# Altium footprint library SMx_SOD.PcbLib: 15 footprints
Each footprint in its own frame and in the unit in brackets; x right, y up, seen from the top. Pads: shape width x height; smd on the part's side, far side on the other; paste and mask are expansions set on the pad; w line width, h text height; cw(c..) or ccw(c..) is an arc to the next point about the centre after c.
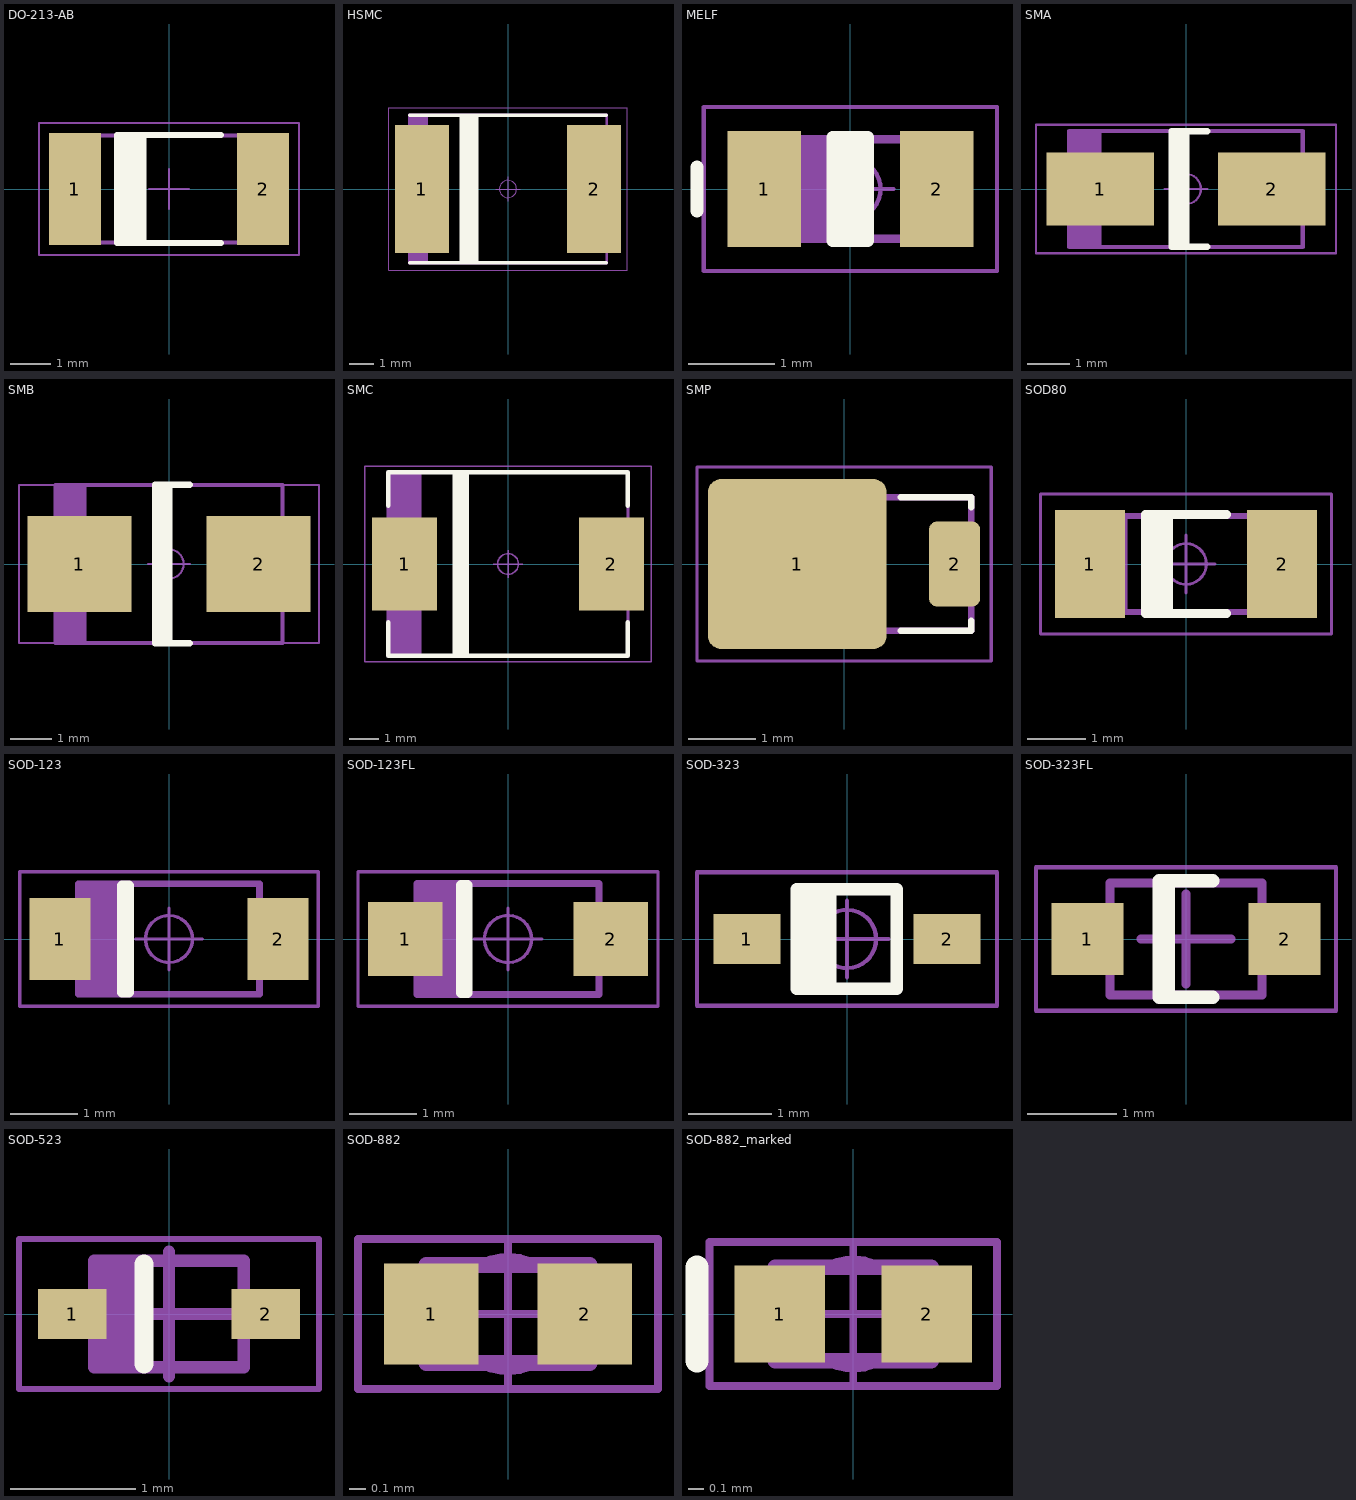
[diagram p0: the footprints below, top view; thin cyan lines are the x and y axes]

## DO-213-AB [mm] "DO-213-AB, MELF Diode, 2-Leads, Body 5.0x2.5mm, IPC Medium Density"
height 2.7
pads (2):
  rect 1.3x2.8 smd: 1(-2.35,0) 2(2.35,0)
Top Overlay:
  rectangle: -1.3,-1.35 -0.75,1.35
  lines w0.15: -0.75,-1.35 -0.75,1.35 ; -0.635,-1.35 -0.635,1.27 ; 1.3,-1.35 -1.3,-1.35 -1.3,1.35 1.3,1.35
Mechanical 14:
  lines w0.1: -2.5,-1.335 -2.5,1.335 ; -2.4,-1.335 -2.4,1.335 ; -2.3,-1.335 -2.3,1.335 ; -2.2,-1.335 -2.2,1.335 ; -2.1,-1.335 -2.1,1.335 ; -2,-1.335 -2,1.335 ; -2.6,-1.335 2.6,-1.335 2.6,1.335 -2.6,1.335 -2.6,-1.335
  text ".Designator" at -0.65,-0.55 h1
Mechanical 15:
  lines w0.05: -0.5,0 0.5,0 ; 0,-0.5 0,0.5 ; -3.25,-1.65 3.25,-1.65 3.25,1.65 -3.25,1.65 -3.25,-1.65
3D body "DIOMELF5025N.stp": height 2.67, standoff 0, extent -2.6,-1.335 2.6,1.335

## HSMC [mm] "DO-214-AB (HSMC) Molded Diode, Body 6.025 x 6.13mm, IPC Medium Density"
height 5.43
pads (2):
  rect 2.2x5.2 smd: 1(-3.5,0) 2(3.5,0)
Top Overlay:
  lines w0.15: -4,-3 4,-3 ; -4,3 4,3 ; -1.905,-3 -1.905,3 ; -1.778,-3 -1.778,3 ; -1.651,-3 -1.651,3 ; -1.524,-3 -1.524,3 ; -1.397,-3 -1.397,3 ; -1.27,-3 -1.27,3
Mechanical 14:
  lines w0.1: -3.908,-3.012 -3.908,3.012 ; -3.808,-3.012 -3.808,3.012 ; -3.708,-3.012 -3.708,3.012 ; -3.608,-3.012 -3.608,3.012 ; -3.508,-3.012 -3.508,3.012 ; -3.408,-3.012 -3.408,3.012 ; -3.308,-3.012 -3.308,3.012 ; -4.008,-3.012 -4.008,3.012 ; -4.008,-3.012 -4.008,3.012 ; -4.008,-3.012 4.008,-3.012 4.008,3.012 -4.008,3.012
  text ".Designator" at -0.7,-0.75 h1
Mechanical 15:
  circle w0.05: c0,0 r0.35
  lines w0.05: -0.5,0 0.5,0 ; 0,-0.5 0,0.5 ; -4.85,-3.3 -4.85,3.3 4.85,3.3 4.85,-3.3 -4.85,-3.3
3D body "DIOM8060X543N.stp": height 5.43, standoff 0, extent -4.09,-3.05 4.09,3.05

## MELF [mm] "MELF Diode, 2-Leads, Body 1.7x1.15mm, IPC Medium Density"
height 1.2
pads (2):
  rect 0.85x1.35 smd: 1(-1,0) 2(1,0)
Top Overlay:
  lines w0.15: -1.778,-0.254 -1.778,0.254 ; -0.127,-0.6 -0.127,0.6 ; 0,-0.6 0,0.6 ; 0.127,-0.6 0.127,0.6 ; -0.2,-0.6 0.2,-0.6 0.2,0.6 -0.2,0.6 -0.2,-0.6
Mechanical 14:
  lines w0.1: -0.85,-0.575 -0.85,0.575 ; -0.75,-0.575 -0.75,0.575 ; -0.65,-0.575 -0.65,0.575 ; -0.55,-0.575 -0.55,0.575 ; -0.45,-0.575 -0.45,0.575 ; -0.35,-0.575 -0.35,0.575 ; -0.25,-0.575 -0.25,0.575 ; -0.95,-0.575 0.95,-0.575 0.95,0.575 -0.95,0.575 ; -0.95,-0.575 -0.95,0.575 ; -0.95,-0.575 -0.95,0.575
  text ".Designator" at 0.15,-0.2 h0.4
Mechanical 15:
  circle w0.05: c0,0 r0.35
  lines w0.05: -0.5,0 0.5,0 ; 0,-0.5 0,0.5 ; -1.7,-0.95 1.7,-0.95 1.7,0.95 -1.7,0.95 -1.7,-0.95
3D body "DIOMELF1911N.stp": height 1.2, standoff 0, extent -1,-0.6 1,0.6

## SMA [mm]
height 3.15
pads (2):
  rect 2.5x1.7 smd: 1(-2,0) 2(2,0)
Top Overlay:
  lines w0.15: -0.25,-1.35 -0.25,1.35 ; -0.138,-1.35 -0.138,1.35 ; 0.004,1.27 0.004,-1.35 0.062,-1.35 ; 0.5,-1.35 -0.338,-1.35 -0.338,1.35 0.5,1.35
Mechanical 14:
  lines w0.1: -2.625,-1.352 -2.625,1.352 ; -2.525,-1.352 -2.525,1.352 ; -2.425,-1.352 -2.425,1.352 ; -2.325,-1.352 -2.325,1.352 ; -2.225,-1.352 -2.225,1.352 ; -2.125,-1.352 -2.125,1.352 ; -2.025,-1.352 -2.025,1.352 ; -2.725,-1.352 2.725,-1.352 2.725,1.352 -2.725,1.352 ; -2.725,-1.352 -2.725,1.352 ; -2.725,-1.352 -2.725,1.352
  text ".Designator" at -1.15,-0.6 h1
Mechanical 15:
  circle w0.05: c0,0 r0.35
  lines w0.05: -0.5,0 0.5,0 ; 0,-0.5 0,0.5 ; -3.5,-1.5 3.5,-1.5 3.5,1.5 -3.5,1.5 -3.5,-1.5
3D body "DIOM5528X26.STEP": height 2.6, standoff 0.03, extent -2.75,-1.4 2.75,1.4

## SMB [mm]
height 3.15
pads (2):
  rect 2.5x2.3 smd: 1(-2.15,0) 2(2.15,0)
Top Overlay:
  lines w0.15: -0.25,-1.9 -0.25,1.9 ; -0.138,-1.9 -0.138,1.9 ; 0.004,-1.9 0.004,1.9 ; 0.5,-1.9 -0.338,-1.9 -0.338,1.9 0.5,1.9
Mechanical 14:
  lines w0.1: -2.725,-1.352 -2.725,1.9 2.725,1.9 2.725,-1.9 -2.725,-1.9 -2.725,1.352 ; -2.625,-1.9 -2.625,1.9 ; -2.525,-1.9 -2.525,1.9 ; -2.425,-1.9 -2.425,1.9 ; -2.325,-1.9 -2.325,1.9 ; -2.225,-1.9 -2.225,1.9 ; -2.125,-1.9 -2.125,1.9 ; -2.025,-1.9 -2.025,1.9
  text ".Designator" at -1.1,-0.95 h1
Mechanical 15:
  circle w0.05: c0,0 r0.35
  lines w0.05: -0.5,0 0.5,0 ; 0,-0.46 0,0.46 ; -3.6,-1.9 -3.6,1.9 3.6,1.9 3.6,-1.9 -3.6,-1.9
3D body "DIOM5539X24.STEP": height 2.45, standoff 0.03, extent -2.75,-1.95 2.75,1.95

## SMC [mm] "DO-214-AB/SMC Molded Diode, Body 7.9x5.9mm, IPC Medium Density"
height 2.62
pads (2):
  rect 2.2x3.15 smd: 1(-3.5,0) 2(3.5,0)
Top Overlay:
  lines w0.15: -4.05,-1.975 -4.05,-3.1 4.05,-3.1 4.05,-1.975 ; -4.05,1.975 -4.05,3.1 4.05,3.1 4.05,1.975 ; -1.8,-3.1 -1.8,3.1 ; -1.7,-3.1 -1.7,3.1 ; -1.6,-3.1 -1.6,3.1 ; -1.5,-3.1 -1.5,3.1 ; -1.4,-3.1 -1.4,3.1
Mechanical 14:
  lines w0.1: -4,-3.11 -4,3.11 ; -3.95,-3.11 -3.95,3.11 ; -3.875,-3.11 -3.875,3.11 ; -3.8,-3.11 -3.8,3.11 ; -3.725,-3.11 -3.725,3.11 ; -3.65,-3.11 -3.65,3.11 ; -3.575,-3.11 -3.575,3.11 ; -3.5,-3.11 -3.5,3.11 ; -3.425,-3.11 -3.425,3.11 ; -3.35,-3.11 -3.35,3.11 ; -3.275,-3.11 -3.275,3.11 ; -3.2,-3.11 -3.2,3.11 ; -3.125,-3.11 -3.125,3.11 ; -3.05,-3.11 -3.05,3.11 ; -2.975,-3.11 -2.975,3.11 ; -4.065,-3.11 -4.065,3.11 4.065,3.11 4.065,-3.11 -4.065,-3.11
  text ".Designator" at -1,-0.65 h1
Mechanical 15:
  circle w0.05: c0,0 r0.35
  lines w0.05: -0.5,0 0.5,0 ; 0,-0.46 0,0.46 ; -4.85,-3.3 -4.85,3.3 4.85,3.3 4.85,-3.3 -4.85,-3.3
3D body "DIOM8261X24.STEP": height 2.4, standoff 0.03, extent -4.065,-3.05 4.065,3.05

## SMP [mm] "SODFL, 2-Leads, Body 1,65x3,60mm, IPC Medium Density"
height 0.95
pads (2):
  rrect15% 2.67x2.54 smd: 1(-0.7,0)
  rrect30% 0.762x1.27 smd: 2(1.651,0)
Top Overlay:
  lines w0.1: 0.85,-1 1.9,-1 1.9,-0.85 ; 0.85,1 1.9,1 1.9,0.85
Mechanical 14:
  rectangle: -1.9,-1 -1.1,1
  lines w0.1: -1.9,-1 1.9,-1 1.9,1 -1.9,1 -1.9,-1
  text ".Designator" at -0.3,-0.3 h0.5
Mechanical 15:
  circle w0.05: c0,0 r0.35
  lines w0.05: -0.5,0 0.5,0 ; 0,-0.46 0,0.46 ; -2.2,-1.45 -2.2,1.45 2.2,1.45 2.2,-1.45 -2.2,-1.45
3D body "SMP Package.STEP": height 1, standoff 0, extent -1.925,-1.015 1.925,1.015

## SOD80 [mm] "SOD80, Diode, MELF; 3.50mm L X 1.65mm Dia, IPC Medium Density"
height 1.6
pads (2):
  rect 1.2x1.85 smd: 1(-1.65,0) 2(1.65,0)
Top Overlay:
  lines w0.15: -0.635,-0.762 -0.635,0.762 ; -0.5,-0.85 -0.5,0.85 ; -0.381,-0.762 -0.381,0.762 ; -0.3,-0.85 -0.3,0.85 ; 0.7,-0.85 -0.7,-0.85 -0.7,0.85 0.7,0.85
Mechanical 14:
  lines w0.1: -1.65,-0.825 -1.65,0.825 ; -1.55,-0.825 -1.55,0.825 ; -1.45,-0.825 -1.45,0.825 ; -1.35,-0.825 -1.35,0.825 ; -1.25,-0.825 -1.25,0.825 ; -1.15,-0.825 -1.15,0.825 ; -1.05,-0.825 -1.05,0.825 ; -1.75,-0.825 1.75,-0.825 1.75,0.825 -1.75,0.825 ; -1.75,-0.825 -1.75,0.825 ; -1.75,-0.825 -1.75,0.825
  text ".Designator" at -0.25,-0.25 h0.5
Mechanical 15:
  circle w0.05: c0,0 r0.35
  lines w0.05: -0.5,0 0.5,0 ; 0,-0.5 0,0.5 ; -2.5,-1.2 2.5,-1.2 2.5,1.2 -2.5,1.2 -2.5,-1.2
Mechanical 21:
  lines w0.001: -1.85,-0.85 1.85,-0.85 1.85,0.85 -1.85,0.85 -1.85,-0.85
3D body "DIOMELF3516N.stp": height 1.7, standoff 0, extent -1.85,-0.8 1.65,0.9

## SOD-123 [mm] "SODFL, 2-Leads, Body 1,65x3,60mm, IPC Medium Density"
height 0.95
pads (2):
  rect 0.91x1.22 smd: 1(-1.625,0) 2(1.625,0)
Top Overlay:
  lines w0.15: -0.7,-0.8 -0.6,-0.8 -0.6,0.8 -0.7,0.8 -0.7,-0.8
Mechanical 14:
  lines w0.1: -1.275,-0.825 -1.275,0.825 ; -1.2,-0.825 -1.2,0.825 ; -1.1,-0.825 -1.1,0.825 ; -1,-0.825 -1,0.825 ; -0.9,-0.825 -0.9,0.825 ; -0.8,-0.825 -0.8,0.825 ; -0.7,-0.825 -0.7,0.825 ; -1.35,-0.825 -1.35,0.825 1.35,0.825 1.35,-0.825 -1.35,-0.825
  text ".Designator" at -0.4,-0.2 h0.5
Mechanical 15:
  circle w0.05: c0,0 r0.35
  lines w0.05: -0.5,0 0.5,0 ; 0,-0.46 0,0.46 ; -2.225,-1 2.225,-1 2.225,1 -2.225,1 -2.225,-1
3D body "SOD123.step": height 1.27, standoff 0, extent -1.85,-0.8 1.85,0.8

## SOD-123FL [mm] "SODFL, 2-Leads, Body 1,65x3,60mm, IPC Medium Density"
height 0.95
pads (2):
  rect 1.1x1.1 smd: 1(-1.525,0) 2(1.525,0)
Top Overlay:
  lines w0.15: -0.7,-0.8 -0.7,0.8 -0.6,0.8 -0.6,-0.8 -0.7,-0.8
Mechanical 14:
  lines w0.1: -1.275,-0.825 -1.275,0.825 ; -1.2,-0.825 -1.2,0.825 ; -1.1,-0.825 -1.1,0.825 ; -1,-0.825 -1,0.825 ; -0.9,-0.825 -0.9,0.825 ; -0.8,-0.825 -0.8,0.825 ; -0.7,-0.825 -0.7,0.825 ; -1.35,-0.825 1.35,-0.825 1.35,0.825 -1.35,0.825 -1.35,-0.825
  text ".Designator" at -0.4,-0.2 h0.5
Mechanical 15:
  circle w0.05: c0,0 r0.35
  lines w0.05: -0.5,0 0.5,0 ; 0,-0.46 0,0.46 ; -2.225,-1 -2.225,1 2.225,1 2.225,-1 -2.225,-1
3D body "SODFL360X95-2N.step": height 0.95, standoff 0, extent -1.8,-0.825 1.8,0.825

## SOD-323 [mm] "SOIC, 2-Leads, Body 1,30x1,78mm, Pitch 1,27mm, IPC Medium Density"
height 1.15
pads (2):
  rect 0.8x0.6 smd: 1(-1.2,0) 2(1.2,0)
Top Overlay:
  lines w0.15: -0.5,-0.6 -0.5,0.6 ; -0.4,-0.6 -0.4,0.6 ; -0.3,-0.6 -0.3,0.6 ; -0.2,-0.6 -0.2,0.6 ; -0.6,-0.6 0.6,-0.6 0.6,0.6 -0.6,0.6 -0.6,-0.6
Mechanical 14:
  lines w0.1: -0.5,-0.6 -0.5,0.6 ; -0.425,-0.6 -0.425,0.6 ; -0.325,-0.6 -0.325,0.6 ; -0.225,-0.6 -0.225,0.6 ; -0.6,-0.6 -0.6,0.6 0.6,0.6 0.6,-0.6 -0.6,-0.6
  text ".Designator" at -0.55,-0.2 h0.5
Mechanical 15:
  circle w0.05: c0,0 r0.35
  lines w0.05: -0.5,0 0.5,0 ; 0,-0.46 0,0.46 ; -1.8,-0.8 -1.8,0.8 1.8,0.8 1.8,-0.8 -1.8,-0.8
3D body "SOD323.step": height 1.1, standoff 0, extent -1.3,-0.675 1.3,0.675

## SOD-323FL [mm] "SODFL, 2-Leads, Body 1,25x2,50mm, IPC Medium Density"
height 1
pads (2):
  rect 0.8x0.8 smd: 1(-1.1,0) 2(1.1,0)
Top Overlay:
  lines w0.15: -0.2,-0.6 -0.2,0.6 ; 0.3,-0.65 -0.3,-0.65 -0.3,0.65 0.3,0.65
Mechanical 13:
  lines w0.1: -0.85,-0.625 -0.85,0.625 0.85,0.625 0.85,-0.625 -0.85,-0.625
Mechanical 15:
  lines w0.05: -1.675,-0.8 -1.675,0.8 1.675,0.8 1.675,-0.8 -1.675,-0.8
  lines w0.1: -0.5,0 0.5,0 ; 0,-0.5 0,0.5
3D body "SODFL250X100-2N.step": height 1, standoff 0, extent -1.25,-0.625 1.25,0.625

## SOD-523 [mm] "SODFL, 2-Leads, Body 0,80x1,60mm, IPC Medium Density"
height 0.65
pads (2):
  rect 0.55x0.4 smd: 1(-0.775,0) 2(0.775,0)
Top Overlay:
  lines w0.15: -0.2,-0.4 -0.2,0.4
Mechanical 14:
  lines w0.1: -0.5,-0.425 -0.5,0.425 ; -0.4,-0.425 -0.4,0.425 ; -0.3,-0.425 -0.3,0.425 ; -0.2,-0.425 -0.2,0.425 ; -0.6,-0.425 -0.6,0.425 0.6,0.425 0.6,-0.425 -0.6,-0.425
  text ".Designator" at -0.3,-0.2 h0.35
Mechanical 15:
  lines w0.05: -1.2,-0.6 -1.2,0.6 1.2,0.6 1.2,-0.6 -1.2,-0.6
  lines w0.1: -0.5,0 0.5,0 ; 0,-0.5 0,0.5
3D body "SODFL160X65-2N.step": height 0.67, standoff 0.02, extent -0.8,-0.425 0.8,0.425

## SOD-882 [mm] "DFN, 2-Leads, Body 0,60x1,00mm, Pitch 0,65mm, IPC Medium Density"
height 0.4
pads (2):
  rect 0.58x0.62 smd: 1(-0.47,0) 2(0.47,0)
Mechanical 14:
  lines w0.1: -0.5,-0.3 -0.5,0.3 ; -0.5,-0.3 0.5,-0.3 ; -0.5,-0.3 -0.5,0.3 ; -0.5,-0.3 0.5,-0.3 ; -0.5,0.3 0.5,0.3 ; -0.5,0.3 0.5,0.3 ; 0.5,-0.3 0.5,0.3 ; 0.5,-0.3 0.5,0.3
  text ".Designator" at -0.35,-0.1 h0.2
Mechanical 15:
  circle w0.05: c0,0 r0.35
  lines w0.05: -0.5,0 0.5,0 ; 0,-0.46 0,0.46 ; -0.92,-0.46 0.92,-0.46 0.92,0.46 -0.92,0.46 -0.92,-0.46
3D body "DFN65P100X40-2N.step": height 0.4, standoff 0, extent -0.5,-0.3 0.5,0.3

## SOD-882_marked [mm] "DFN, 2-Leads, Body 0,60x1,00mm, Pitch 0,65mm, IPC Medium Density"
height 0.4
pads (2):
  rect 0.58x0.62 smd: 1(-0.47,0) 2(0.47,0)
Top Overlay:
  lines w0.15: -1,-0.3 -1,0.3
Mechanical 14:
  lines w0.1: -0.5,-0.3 0.5,-0.3 ; -0.5,-0.3 -0.5,0.3 ; -0.5,-0.3 0.5,-0.3 ; -0.5,-0.3 -0.5,0.3 ; -0.5,0.3 0.5,0.3 ; -0.5,0.3 0.5,0.3 ; 0.5,-0.3 0.5,0.3 ; 0.5,-0.3 0.5,0.3
  text ".Designator" at -0.35,-0.1 h0.2
Mechanical 15:
  circle w0.05: c0,0 r0.35
  lines w0.05: -0.5,0 0.5,0 ; 0,-0.46 0,0.46 ; -0.92,-0.46 -0.92,0.46 0.92,0.46 0.92,-0.46 -0.92,-0.46
3D body "DFN65P100X40-2N.step": height 0.4, standoff 0, extent -0.5,-0.3 0.5,0.3